# Altium footprint library adafruit.PCBLIB: 630 footprints (part 11 of 40)
Each footprint in its own frame and in the unit in brackets; x right, y up, seen from the top. Pads: shape width x height; smd on the part's side, far side on the other; paste and mask are expansions set on the pad; w line width, h text height; cw(c..) or ccw(c..) is an arc to the next point about the centre after c.
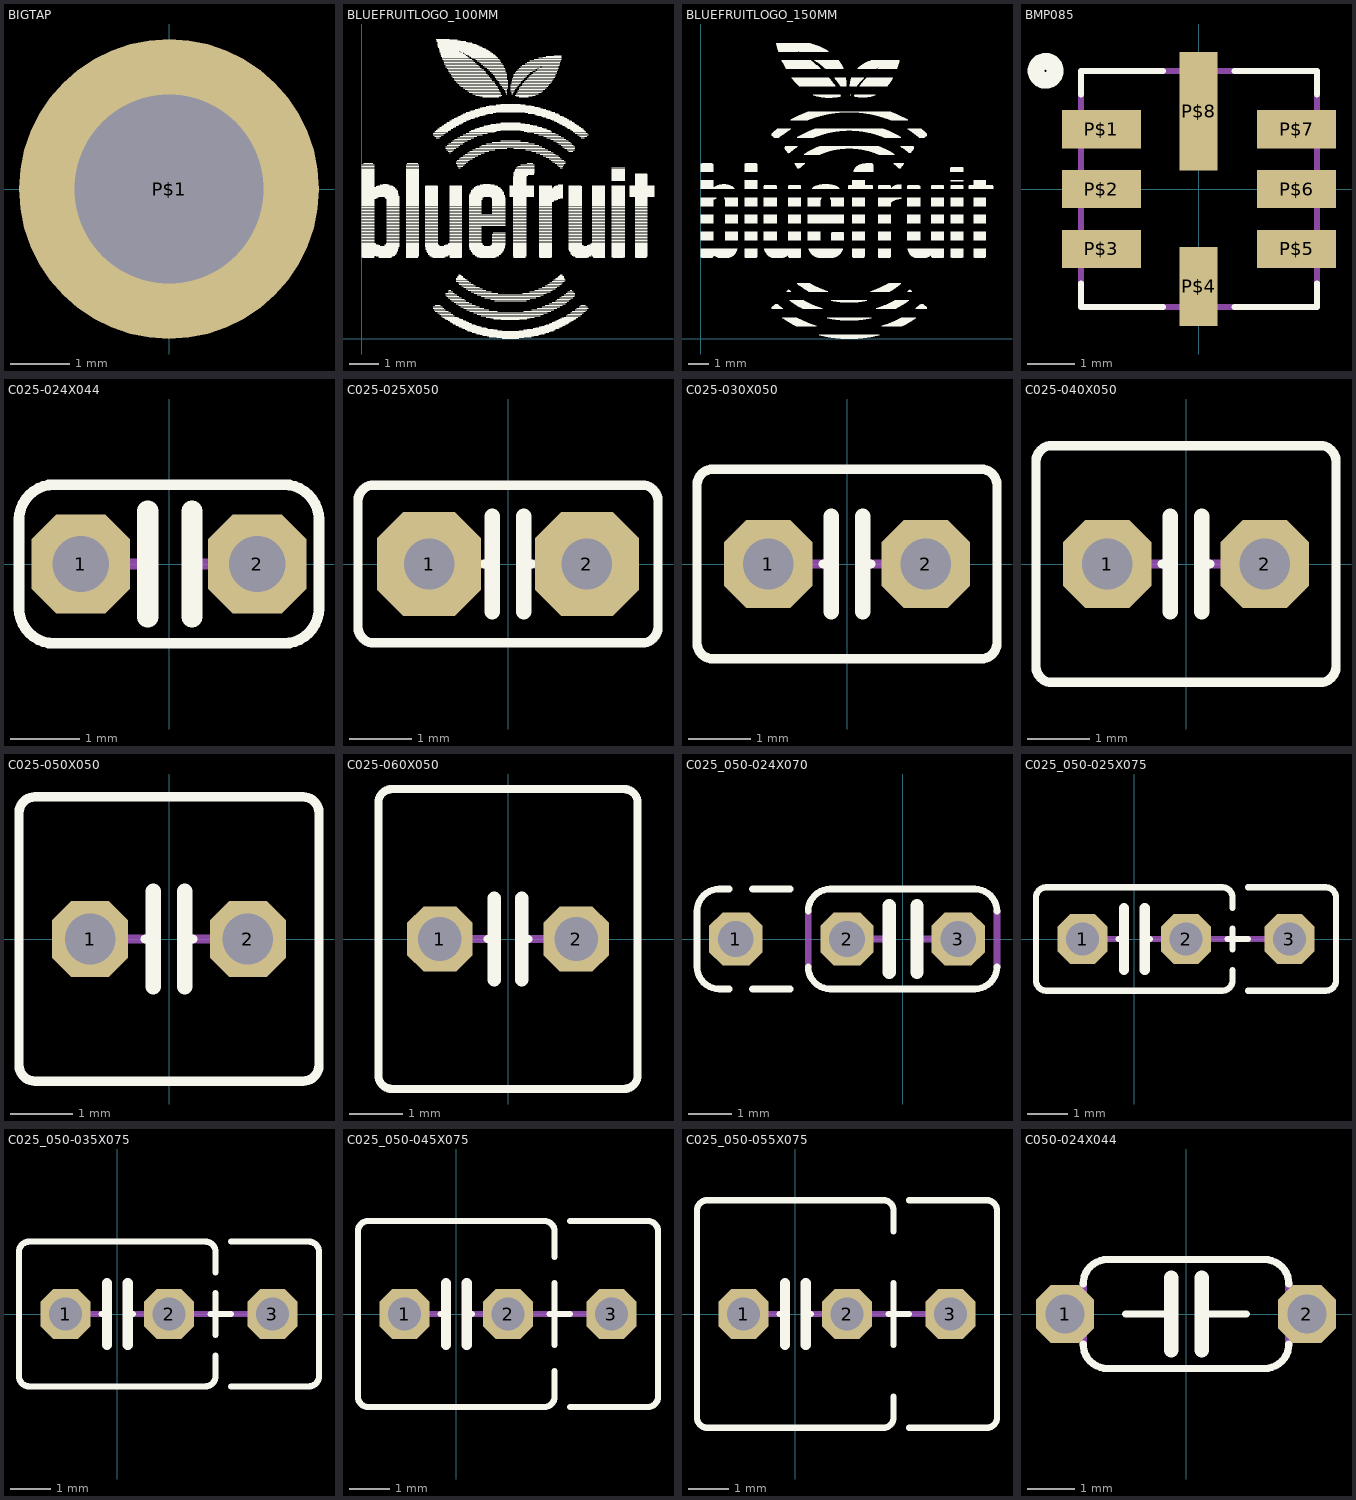
[diagram p10: the footprints below, top view; thin cyan lines are the x and y axes]

## BIGTAP [mil]
pads (1):
  round 200 hole 126: P$1(0,0)
Top Layer:
  region: 0,0 10,0 10,10 0,10
Bottom Layer:
  region: 0,0 10,0 10,10 0,10
Top Solder:
  region: 0,0 10,0 10,10 0,10
Bottom Solder:
  region: 0,0 10,0 10,10 0,10

## BLUEFRUITLOGO_100MM [mil]
Top Overlay:
  drawing of 2838 lines, arcs and shapes, not listed

## BLUEFRUITLOGO_150MM [mil]
Top Overlay:
  drawing of 2838 lines, arcs and shapes, not listed

## BMP085 [mil]
pads (8):
  rect 66x32 smd: P$1(-81.3,50) P$2(-81.3,0) P$3(-81.3,-50) P$5(82,-50) P$6(82,0) P$7(82,50)
  rect 32x66 smd: P$4(0,-81.3)
  rect 32x99 smd: P$8(0,65)
Top Overlay:
  circle w14: c-127.95,99 r8
  lines w5: -98.43,-78.74 -98.43,-98.43 -29.53,-98.43 ; -98.43,79 -98.43,99 -29.53,99 ; 30,-98.43 99,-98.43 99,-78.74 ; 30,99 99,99 99,79
Mechanical 16:
  lines w5: -98.43,-98.43 99,-98.43 99,99 -98.43,99 -98.43,-98.43

## C025-024X044 [mil]
pads (2):
  oct 56x56 hole 32: 1(-50,0) 2(50,0)
Top Overlay:
  lines w6: -85,-25 -85,25 cw(c-65,25) -65,45 65,45 cw(c65,25) 85,25 85,-25 cw(c65,-25) 65,-45 -65,-45 cw(c-65,-25) -85,-25
  lines w12: -12,-30 -12,30 ; 13,-30 13,30
Mechanical 16:
  lines w6: -50,0 -12,0 ; 13,0 50,0

## C025-025X050 [mil]
pads (2):
  oct 66x66 hole 32: 1(-50,0) 2(50,0)
Top Overlay:
  lines w6: -15,0 -10,0 ; 10,0 15,0 ; -95,-40 -95,40 cw(c-85,40) -85,50 85,50 cw(c85,40) 95,40 95,-40 cw(c85,-40) 85,-50 -85,-50 cw(c-85,-40) -95,-40
  lines w10: -10,-30 -10,0 -10,30 ; 10,-30 10,0 10,30
Mechanical 16:
  lines w6: -30,0 -15,0 ; 15,0 30,0

## C025-030X050 [mil]
pads (2):
  oct 56x56 hole 32: 1(-50,0) 2(50,0)
Top Overlay:
  lines w6: -15,0 -10,0 ; 10,0 15,0 ; -95,-50 -95,50 cw(c-85,50) -85,60 85,60 cw(c85,50) 95,50 95,-50 cw(c85,-50) 85,-60 -85,-60 cw(c-85,-50) -95,-50
  lines w10: -10,-30 -10,0 -10,30 ; 10,-30 10,0 10,30
Mechanical 16:
  lines w6: -30,0 -15,0 ; 15,0 30,0

## C025-040X050 [mil]
pads (2):
  oct 56x56 hole 32: 1(-50,0) 2(50,0)
Top Overlay:
  lines w6: -15,0 -10,0 ; 10,0 15,0 ; -95,-65 -95,65 cw(c-85,65) -85,75 85,75 cw(c85,65) 95,65 95,-65 cw(c85,-65) 85,-75 -85,-75 cw(c-85,-65) -95,-65
  lines w10: -10,-30 -10,0 -10,30 ; 10,-30 10,0 10,30
Mechanical 16:
  lines w6: -30,0 -15,0 ; 15,0 30,0

## C025-050X050 [mil]
pads (2):
  oct 48x48 hole 32: 1(-50,0) 2(50,0)
Top Overlay:
  lines w6: -15,0 -10,0 ; 10,0 15,0 ; -95,-80 -95,80 cw(c-85,80) -85,90 85,90 cw(c85,80) 95,80 95,-80 cw(c85,-80) 85,-90 -85,-90 cw(c-85,-80) -95,-80
  lines w10: -10,-30 -10,0 -10,30 ; 10,-30 10,0 10,30
Mechanical 16:
  lines w6: -30,0 -15,0 ; 15,0 30,0

## C025-060X050 [mil]
pads (2):
  oct 48x48 hole 32: 1(-50,0) 2(50,0)
Top Overlay:
  lines w6: -15,0 -10,0 ; 10,0 15,0 ; -95,-100 -95,100 cw(c-85,100) -85,110 85,110 cw(c85,100) 95,100 95,-100 cw(c85,-100) 85,-110 -85,-110 cw(c-85,-100) -95,-100
  lines w10: -10,-30 -10,0 -10,30 ; 10,-30 10,0 10,30
Mechanical 16:
  lines w6: -30,0 -15,0 ; 15,0 30,0

## C025_050-024X070 [mil]
pads (3):
  oct 48x48 hole 32: 1(-150,0) 2(-50,0) 3(50,0)
Top Overlay:
  lines w6: -156,-45 -165,-45 cw(c-165,-25) -185,-25 -185,25 cw(c-165,25) -165,45 -156,45 ; -135,-45 -101,-45 ; -135,45 -101,45 ; -85,-25 ccw(c-65,-25) -65,-45 65,-45 ccw(c65,-25) 85,-25 ; -85,25 cw(c-65,25) -65,45 65,45 cw(c65,25) 85,25
  lines w12: -12,-30 -12,30 ; 13,-30 13,30
Mechanical 16:
  lines w6: -85,-25 -85,25 ; -50,0 -12,0 ; 13,0 50,0 ; 85,-25 85,25

## C025_050-025X075 [mil]
pads (3):
  oct 48x48 hole 32: 1(-50,0) 2(50,0) 3(150,0)
Top Overlay:
  lines w6: -15,0 -10,0 ; 10,0 15,0 ; 90,0 110,0 ; 95,-30 95,-40 cw(c85,-40) 85,-50 -85,-50 cw(c-85,-40) -95,-40 -95,40 cw(c-85,40) -85,50 85,50 cw(c85,40) 95,40 95,30 ; 95,-10 95,10 ; 110,-50 185,-50 ccw(c185,-40) 195,-40 195,40 ccw(c185,40) 185,50 110,50
  lines w10: -10,-30 -10,0 -10,30 ; 10,-30 10,0 10,30
Mechanical 16:
  lines w6: -30,0 -15,0 ; 15,0 30,0 ; 70,0 90,0 ; 110,0 130,0

## C025_050-035X075 [mil]
pads (3):
  oct 48x48 hole 32: 1(-50,0) 2(50,0) 3(150,0)
Top Overlay:
  lines w6: -15,0 -10,0 ; 10,0 15,0 ; 90,0 110,0 ; 95,-40 95,-60 cw(c85,-60) 85,-70 -85,-70 cw(c-85,-60) -95,-60 -95,60 cw(c-85,60) -85,70 85,70 cw(c85,60) 95,60 95,40 ; 95,-20 95,20 ; 110,-70 185,-70 ccw(c185,-60) 195,-60 195,60 ccw(c185,60) 185,70 110,70
  lines w10: -10,-30 -10,0 -10,30 ; 10,-30 10,0 10,30
Mechanical 16:
  lines w6: -30,0 -15,0 ; 15,0 30,0 ; 70,0 90,0 ; 110,0 130,0

## C025_050-045X075 [mil]
pads (3):
  oct 48x48 hole 32: 1(-50,0) 2(50,0) 3(150,0)
Top Overlay:
  lines w6: -15,0 -10,0 ; 10,0 15,0 ; 90,0 110,0 ; 95,-55 95,-80 cw(c85,-80) 85,-90 -85,-90 cw(c-85,-80) -95,-80 -95,80 cw(c-85,80) -85,90 85,90 cw(c85,80) 95,80 95,55 ; 95,-30 95,30 ; 110,-90 185,-90 ccw(c185,-80) 195,-80 195,80 ccw(c185,80) 185,90 110,90
  lines w10: -10,-30 -10,0 -10,30 ; 10,-30 10,0 10,30
Mechanical 16:
  lines w6: -30,0 -15,0 ; 15,0 30,0 ; 70,0 90,0 ; 110,0 130,0

## C025_050-055X075 [mil]
pads (3):
  oct 48x48 hole 32: 1(-50,0) 2(50,0) 3(150,0)
Top Overlay:
  lines w6: -15,0 -10,0 ; 10,0 15,0 ; 90,0 110,0 ; 95,-80 95,-100 cw(c85,-100) 85,-110 -85,-110 cw(c-85,-100) -95,-100 -95,100 cw(c-85,100) -85,110 85,110 cw(c85,100) 95,100 95,80 ; 95,-30 95,30 ; 110,-110 185,-110 ccw(c185,-100) 195,-100 195,100 ccw(c185,100) 185,110 110,110
  lines w10: -10,-30 -10,0 -10,30 ; 10,-30 10,0 10,30
Mechanical 16:
  lines w6: -30,0 -15,0 ; 15,0 30,0 ; 70,0 90,0 ; 110,0 130,0

## C050-024X044 [mil]
pads (2):
  oct 48x48 hole 32: 1(-100,0) 2(100,0)
Top Overlay:
  lines w6: -85,-25 ccw(c-65,-25) -65,-45 65,-45 ccw(c65,-25) 85,-25 ; -85,25 cw(c-65,25) -65,45 65,45 cw(c65,25) 85,25 ; -50,0 -12,0 ; 13,0 50,0
  lines w12: -12,-30 -12,0 -12,30 ; 13,-30 13,0 13,30
Mechanical 16:
  rectangle: 85,-15 100,15
  rectangle: -100,-15 -85,15
  lines w6: -85,-25 -85,25 ; 85,-25 85,25